# Altium integrated library DiPho_AFE.IntLib: 33 symbols
Pins are listed as number, name and electrical type; pins without a type are passive.

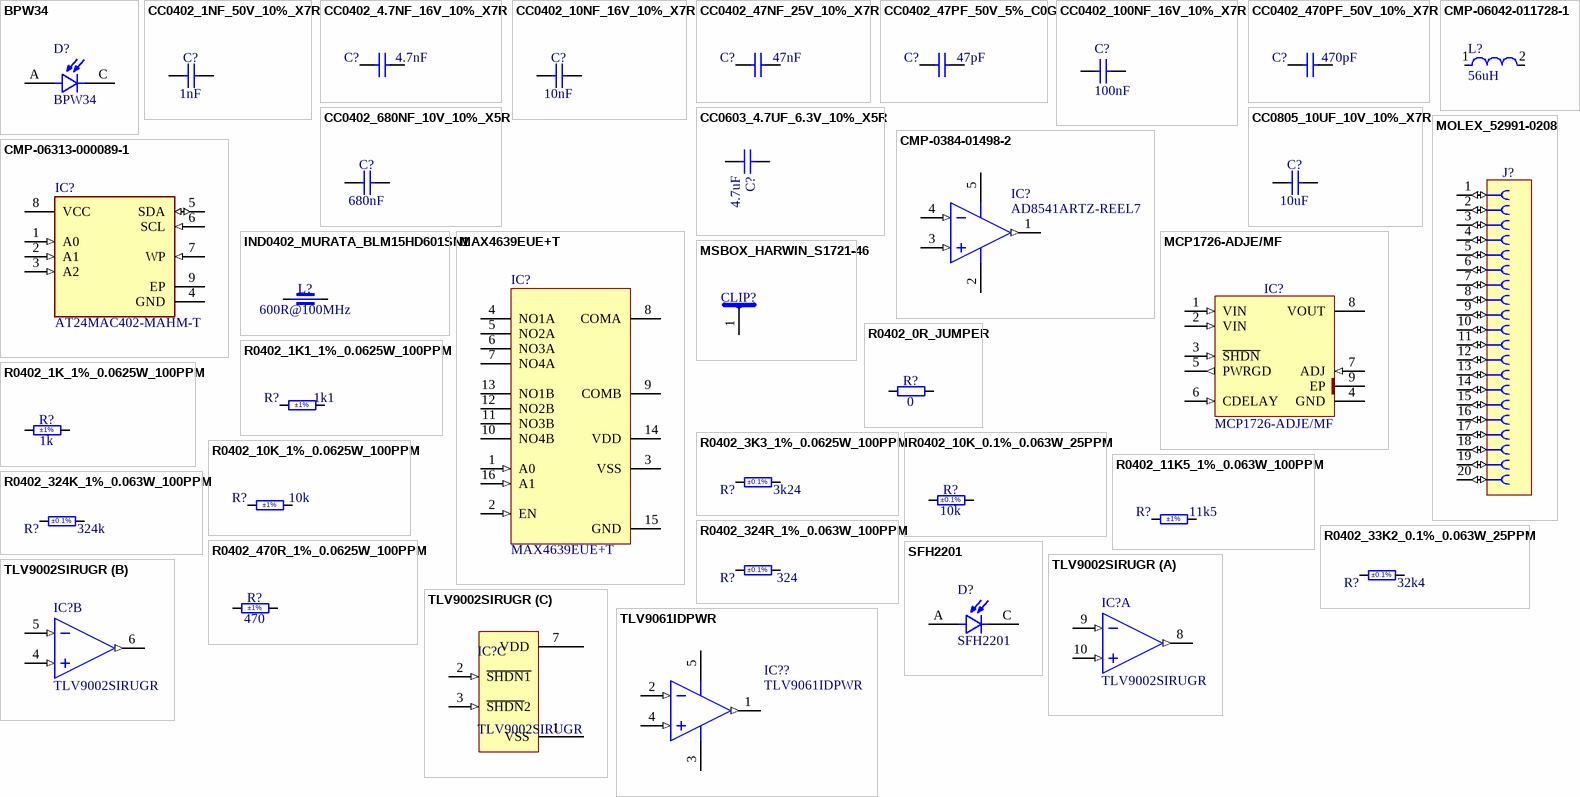
[diagram p0: symbols BPW34 to TLV9061IDPWR]

## BPW34
designator D?
VISHAY - BPW34 - Photodiode, 65 °, 2 nA, 900 nm, DIP-2; Wavelength: 900nm; Rise Time: 100ns; Dark Current: 2nA; Power Dissipation: 215mW; Reverse Breakdown Voltage: 60V; Viewing Angle: 130°; Diode Type: PIN; Lens Style: Clear; Supplier 1: Digi-Key; Manufacturer: Vishay; Manufacturer Part Number: BPW34; RoHS: Yes; Category: Photodiodes; Stock 1: 56; Pricing 1: 1=1,06000, 10=0,94400, 100=0,73630, 500=0,60822, 1000=0,48018, 2000=0,45300 (USD); Mount: Through Hole,PCB; Case/Package: DIP; Number of Pins: 2; Contact Plating: Tin; Min Operating Temperature: -40°C; Max Operating Temperature: 100°C; Fall Time: 100ns; Packaging: Bulk; Max Reverse Voltage (DC): 60V; Package Quantity: 3000; Max Power Dissipation: 215mW; Reverse Voltage (DC): 60V; Breakdown Voltage: 60V; Length: 4.5mm; Width: 4.3mm; Height: 2mm; Radiation Hardening: No; REACH SVHC: Unknown; Lead Free: Lead Free; ComponentLink1URL: https://datasheet.ciiva.com/1248/33605-1248690.pdf?src-supplier=Element14; ComponentLink1Description: https://datasheet.ciiva.com/1248/33605-1248690.pdf?src-supplier=Element14; ComponentLink2URL: https://datasheet.ciiva.com/1249/bpw34-1249073.pdf?src-supplier=Element14; ComponentLink2Description: https://datasheet.ciiva.com/1249/bpw34-1249073.pdf?src-supplier=Element14; ComponentLink3URL: https://datasheet.ciiva.com/25620/0900766b80de9fc5-25620357.pdf?src-supplier=RSComponents; ComponentLink3Description: https://datasheet.ciiva.com/25620/0900766b80de9fc5-25620357.pdf?src-supplier=RSComponents; ComponentLink4URL: https://datasheet.ciiva.com/4697/bpw34-79369-4697616.pdf?src-supplier=Mouser; ComponentLink4Description: https://datasheet.ciiva.com/4697/bpw34-79369-4697616.pdf?src-supplier=Mouser; ComponentLink5URL: https://datasheet.ciiva.com/1336/6514-1336219.pdf?src-supplier=Newark; ComponentLink5Description: https://datasheet.ciiva.com/1336/6514-1336219.pdf?src-supplier=Newark; ComponentLink6URL: https://datasheet.ciiva.com/4269/2bpw34-4269812.pdf?src-supplier=Arrow+Electronics; ComponentLink6Description: https://datasheet.ciiva.com/4269/2bpw34-4269812.pdf?src-supplier=Arrow+Electronics; ComponentLink7URL: https://datasheet.ciiva.com/15117/getdatasheetpartid-112064-15117125.pdf?src-supplier=Verical; ComponentLink7Description: https://datasheet.ciiva.com/15117/getdatasheetpartid-112064-15117125.pdf?src-supplier=Verical; ComponentLink8URL: https://datasheet.ciiva.com/1248/bpw34-1248686.pdf?src-supplier=Element14; ComponentLink8Description: https://datasheet.ciiva.com/1248/bpw34-1248686.pdf?src-supplier=Element14; ComponentLink9URL: https://datasheet.ciiva.com/1335/1809684-1335889.pdf?src-supplier=Newark; ComponentLink9Description: https://datasheet.ciiva.com/1335/1809684-1335889.pdf?src-supplier=Newark; ComponentLink10URL: https://datasheet.ciiva.com/2819/bpw34-2819744.pdf?src-supplier=Digi-Key; ComponentLink10Description: https://datasheet.ciiva.com/2819/bpw34-2819744.pdf?src-supplier=Digi-Key; ComponentLink11URL: https://datasheet.ciiva.com/8084/bpw34-8084840.pdf?src-supplier=Avnet; ComponentLink11Description: https://datasheet.ciiva.com/8084/bpw34-8084840.pdf?src-supplier=Avnet; Supplier Part Number 1: 751-1015-ND
footprint BPW34
pins: A, C

## CC0402_1NF_50V_10%_X7R
designator C?, comment 1nF
Non-polarised capacitor; Part Number: CC0402_1NF_50V_10%_X7R; Part Description: SMD Multilayer Chip Ceramic Capacitor; Manufacturer: GENERIC; Manufacturer1 Part Number: 223858715623; Voltage: 50V; TC: X7R; Tolerance: ±10%; Component Kind: Standard; Component Type: Standard; Footprint: CAPC1005X55N; Pin Count: 2; Value: 1nF; Status: Not Recommended; Manufacturer Part Number: CC0402_1NF_50V_10%_X7R; Case: 0402; Mounted: Yes; Socket: No; SMD: Yes; Sense: No; Manufacturer1 Example: PHYCOMP; Manufacturer1 ComponentHeight: 0.55mm; HelpURL: \\cern.ch\dfs\Applications\Altium\Datasheets\CC0402_X7R_PHYCOMP.pdf; Author: CERN DEM JLC; CreateDate: 03.12.2007; LatestRevisionDate: 03.12.2007
footprint CAPC1005X55N
pins: 1, 2

## CC0402_4.7NF_16V_10%_X7R
designator C?, comment 4.7nF
Non-polarised capacitor; Part Number: CC0402_4.7NF_16V_10%_X7R; Part Description: SMD Multilayer Chip Ceramic Capacitor; Manufacturer: GENERIC; Manufacturer1 Part Number: 223878715632; Voltage: 16V; TC: X7R; Tolerance: ±10%; Component Kind: Standard; Component Type: Standard; Footprint: CAPC1005X55N; Pin Count: 2; Value: 4.7nF; Status: Not Recommended; Manufacturer Part Number: CC0402_4.7NF_16V_10%_X7R; Case: 0402; Mounted: Yes; Socket: No; SMD: Yes; Sense: No; Manufacturer1 Example: PHYCOMP; Manufacturer1 ComponentHeight: 0.55mm; HelpURL: \\cern.ch\dfs\Applications\Altium\Datasheets\CC0402_X7R_PHYCOMP.pdf; Author: CERN DEM JLC; CreateDate: 03.12.2007; LatestRevisionDate: 03.12.2007
footprint CAPC1005X55N
pins: 1, 2

## CC0402_10NF_16V_10%_X7R
designator C?, comment 10nF
Non-polarised capacitor; Part Number: CC0402_10NF_16V_10%_X7R; Part Description: SMD Multilayer Chip Ceramic Capacitor; Manufacturer: GENERIC; Manufacturer1 Part Number: 223878715636; Voltage: 16V; TC: X7R; Tolerance: ±10%; Component Kind: Standard; Component Type: Standard; Footprint: CAPC1005X55N; Pin Count: 2; Value: 10nF; Status: Not Recommended; Manufacturer Part Number: CC0402_10NF_16V_10%_X7R; Case: 0402; Mounted: Yes; Socket: No; SMD: Yes; Sense: No; Manufacturer1 Example: PHYCOMP; Manufacturer1 ComponentHeight: 0.55mm; HelpURL: \\cern.ch\dfs\Applications\Altium\Datasheets\CC0402_X7R_PHYCOMP.pdf; Author: CERN DEM JLC; CreateDate: 03.12.2007; LatestRevisionDate: 03.12.2007
footprint CAPC1005X55N
pins: 1, 2

## CC0402_47NF_25V_10%_X7R
designator C?, comment 47nF
Non-polarised capacitor; Part Number: CC0402_47NF_25V_10%_X7R; Part Description: SMD Multilayer Chip Ceramic Capacitor; Manufacturer: GENERIC; Manufacturer1 Part Number: C1005X7R1E473K050; Voltage: 25V; TC: X7R; Tolerance: ±10%; Component Kind: Standard; Component Type: Standard; Footprint: CAPC1005X55N; Pin Count: 2; Value: 47nF; Status: Preferred; Manufacturer Part Number: CC0402_47NF_25V_10%_X7R; Case: 0402; Mounted: Yes; Socket: No; SMD: Yes; Sense: No; Manufacturer1 Example: TDK; Manufacturer1 ComponentHeight: 0.55mm; HelpURL: \\cern.ch\dfs\Applications\Altium\Datasheets\CC0402_X7R_TDK_C.pdf; Author: CERN DEM JLC; CreateDate: 25.10.2012; LatestRevisionDate: 25.10.2012
footprint CAPC1005X55N
pins: 1, 2

## CC0402_47PF_50V_5%_C0G
designator C?, comment 47pF
Non-polarised capacitor; Part Number: CC0402_47PF_50V_5%_C0G; Part Description: SMD Multilayer Chip Ceramic Capacitor; Manufacturer: GENERIC; Manufacturer1 Part Number: C0402C470J5GACTU; Voltage: 50V; TC: C0G/NP0; Tolerance: ±5%; Component Kind: Standard; Component Type: Standard; Footprint: CAPC1005X55N; Pin Count: 2; Value: 47pF; Status: Preferred; Manufacturer Part Number: CC0402_47PF_50V_5%_C0G; Case: 0402; Mounted: Yes; Socket: No; SMD: Yes; Sense: No; Manufacturer1 Example: KEMET; Manufacturer1 ComponentHeight: 0.55mm; HelpURL: \\cern.ch\dfs\Applications\Altium\Datasheets\CC0402_C0G_KEMET_(Commercial Grade).pdf; Author: CERN DEM JLC; CreateDate: 03.12.2007; LatestRevisionDate: 22.04.2015
footprint CAPC1005X55N
pins: 1, 2

## CC0402_100NF_16V_10%_X7R
designator C?, comment 100nF
Non-polarised capacitor; Manufacturer: GENERIC; Part Number: CC0402_100NF_16V_10%_X7R; Part Description: SMD Multilayer Chip Ceramic Capacitor; Manufacturer1 Part Number: GRM155R71C104KA88D; Tolerance: ±10%; Voltage: 16V; TC: X7R; Component Kind: Standard; Component Type: Standard; Footprint: CAPC1005X55N; Pin Count: 2; Value: 100nF; Status: Not Recommended; Manufacturer Part Number: CC0402_100NF_16V_10%_X7R; Case: 0402; Mounted: Yes; Socket: No; SMD: Yes; Sense: No; Manufacturer1 Example: MURATA; Manufacturer1 ComponentHeight: 0.55mm; HelpURL: \\cern.ch\dfs\Applications\Altium\Datasheets\CC0402_X7R_MURATA_GRM.pdf; Author: CERN DEM JLC; CreateDate: 05.12.2013; LatestRevisionDate: 03.12.2007
footprint CAPC1005X55N
pins: 1, 2

## CC0402_470PF_50V_10%_X7R
designator C?, comment 470pF
Non-polarised capacitor; Part Number: CC0402_470PF_50V_10%_X7R; Part Description: SMD Multilayer Chip Ceramic Capacitor; Manufacturer: GENERIC; Manufacturer1 Part Number: 223858715618; Voltage: 50V; TC: X7R; Tolerance: ±10%; Component Kind: Standard; Component Type: Standard; Footprint: CAPC1005X55N; Pin Count: 2; Value: 470pF; Status: Not Recommended; Manufacturer Part Number: CC0402_470PF_50V_10%_X7R; Case: 0402; Mounted: Yes; Socket: No; SMD: Yes; Sense: No; Manufacturer1 Example: PHYCOMP; Manufacturer1 ComponentHeight: 0.55mm; HelpURL: \\cern.ch\dfs\Applications\Altium\Datasheets\CC0402_NP0_PHYCOMP.pdf; Author: CERN DEM JLC; CreateDate: 03.12.2007; LatestRevisionDate: 03.12.2007
footprint CAPC1005X55N
pins: 1, 2

## CC0402_680NF_10V_10%_X5R
designator C?, comment 680nF
Non-polarised capacitor; Part Number: CC0402_680NF_10V_10%_X5R; Part Description: SMD Multilayer Chip Ceramic Capacitor; Manufacturer: GENERIC; Manufacturer1 Part Number: GRM155R61A684KE15; Voltage: 10V; TC: X5R; Tolerance: ±10%; Component Kind: Standard; Component Type: Standard; Footprint: CAPC1005X55N; Pin Count: 2; Value: 680nF; Status: None; Manufacturer Part Number: CC0402_680NF_10V_10%_X5R; Case: 0402; Mounted: Yes; Socket: No; SMD: Yes; Sense: No; Manufacturer1 Example: MURATA; Manufacturer1 ComponentHeight: 0.55mm; HelpURL: \\cern.ch\dfs\Applications\Altium\Datasheets\CC0402_X5R_MURATA_GRM.pdf; Author: CERN DEM BC; CreateDate: 19.04.2021; LatestRevisionDate: 19.04.2021
footprint CAPC1005X55N
pins: 1, 2

## CC0603_4.7UF_6.3V_10%_X5R
designator C?, comment 4.7uF
Non-polarised capacitor; Part Number: CC0603_4.7UF_6.3V_10%_X5R; Part Description: SMD Multilayer Chip Ceramic Capacitor; Manufacturer: GENERIC; Manufacturer1 Part Number: 225520613672; Voltage: 6.3V; TC: X5R; Tolerance: ±10%; Component Kind: Standard; Component Type: Standard; Footprint: CAPC1608X87N; Pin Count: 2; Value: 4.7uF; Status: Preferred; Manufacturer Part Number: CC0603_4.7UF_6.3V_10%_X5R; Case: 0603; Mounted: Yes; Socket: No; SMD: Yes; Sense: No; Manufacturer1 Example: PHYCOMP; Manufacturer1 ComponentHeight: 0.87mm; HelpURL: \\cern.ch\dfs\Applications\Altium\Datasheets\CC0805_X5R_PHYCOMP_HC.pdf; Author: CERN DEM JLC; CreateDate: 03.12.2007; LatestRevisionDate: 03.12.2007
footprint CAPC1608X87N
pins: 1, 2

## CC0805_10UF_10V_10%_X7R
designator C?, comment 10uF
Non-polarised capacitor; Part Number: CC0805_10UF_10V_10%_X7R; Part Description: SMD Multilayer Chip Ceramic Capacitor; Manufacturer: GENERIC; Manufacturer1 Part Number: GRM21BR71A106KE51L; Voltage: 10V; TC: X7R; Tolerance: ±10%; Component Kind: Standard; Component Type: Standard; Footprint: CAPC2012X135N; Pin Count: 2; Value: 10uF; Status: Preferred; Manufacturer Part Number: CC0805_10UF_10V_10%_X7R; Case: 0805; Mounted: Yes; Socket: No; SMD: Yes; Sense: No; Manufacturer1 Example: MURATA; Manufacturer1 ComponentHeight: 1.35mm; HelpURL: \\cern.ch\dfs\Applications\Altium\Datasheets\CC0805_X7R_MURATA.pdf; Author: CERN DEM JLC; CreateDate: 30.04.2012; LatestRevisionDate: 30.04.2012
footprint CAPC2012X135N
pins: 1, 2

## CMP-0384-01498-2
designator IC?, comment AD8541ARTZ-REEL7
Single Channel RRIO Operational Amplifier, 1 MHz BW, 920 mV/us SR, Industrial, 5-pin SOT23 (RJ-5), Reel; Manufacturer: Analog Devices; Generic Part Number: AD8541; Input Bias Current: 4pA; V Span Max: 5.5V; Amplifiers Per Package: 1; Small Signal Bandwidth: 1MHz; Input Offset Voltage: 1mV; Iq/Amp: 65uA; V Span Min: 2.7V; ComponentLink1URL: http://www.analog.com/en/index.html; ComponentLink2URL: http://www.analog.com/static/imported-files/data_sheets/AD8541_8542_8544.pdf; ComponentLink3Description: Package Specification; ComponentLink3URL: http://www.analog.com/static/imported-files/packages/PKG_PDF/SOT-23(RJ)/RJ_5.pdf; Slew Rate: 920mV/us; Mounting Technology: Surface Mount; ComponentLink4URL: http://www.analog.com/en/all-operational-amplifiers-op-amps/operational-amplifiers-op-amps/ad8541/products/product.html#product-recommendations; DatasheetVersion: Rev. G; ComponentLink1Description: Manufacturer URL; PackageVersion: 121608-A; ComponentLink2Description: Datasheet; RevisionNote: Reference Circuit URL fixed; PartNumber: AD8541ARTZ-REEL7; PackageDescription: 5-Pin Small Outline Transistor Package, Body 2.9 x 1.6 mm, Pitch 0.95 mm; ComponentLink4Description: Reference Circuit; PackageReference: RJ-5; Code_JEDEC: MO-178-AA; Manufacturer Part Number: AD8541ARTZ-REEL7
footprint ADI-RJ-5_N (SOT-23, 5-Leads, Body 2.9x1.6mm, Pitch 0.95mm, IPC Medium Density)
footprint ADI-RJ-5_L (SOT-23, 5-Leads, Body 2.9x1.6mm, Pitch 0.95mm, IPC High Density)
footprint ADI-RJ-5_M (SOT-23, 5-Leads, Body 2.9x1.6mm, Pitch 0.95mm, IPC Low Density)
pins: 1 OUT A (out), 2 -V (power), 3 +IN A (in), 4 -IN A (in), 5 +V (power)

## CMP-06042-011728-1
designator L?, comment 56uH
Wire Wound Ferrite Inductor for Power Lines 56μH ±20% 1.2Ω 500mA 1212; Manufacturer: Murata; Manufacturer Part Number: LQH3NPN560MMEL
footprint FP-LQH3NPH_ME-MFG
pins: 1, 2

## CMP-06313-000089-1
designator IC?, comment AT24MAC402-MAHM-T
IC EEPROM 2K I2C 1MHZ 8UDFN; Manufacturer: Microchip; Memory Size: 2Kb; Access Time: 550ns; Memory Type: Non-Volatile; Max Operating Temperature: 85°C; Frequency: 1MHz; Min Operating Temperature: -40°C; Packaging: Cut Tape; RoHS Compliant: Yes; Mount: Surface Mount; Manufacturer Part Number: AT24MAC402-MAHM-T
footprint FP-C04-21355-Q4B-IPC_B
footprint FP-C04-21355-Q4B-MFG
footprint FP-C04-21355-Q4B-IPC_C
footprint FP-C04-21355-Q4B-IPC_A
pins: 1 A0 (in), 2 A1 (in), 3 A2 (in), 4 GND (power), 5 SDA (io), 6 SCL (in), 7 WP (in), 8 VCC (power), 9 EP (power)

## IND0402_MURATA_BLM15HD601SN1
designator L?, comment 600R@100MHz
Part Number: IND0402_MURATA_BLM15HD601SN1; Part Description: SMD EMIFIL Suppression Chip Ferrite Bead; Manufacturer: MURATA; Manufacturer Part Number: BLM15HD601SN1D; Power: 300mA; Resistance: 0.85R; Tolerance: ±25%; Component Kind: Standard; Component Type: Standard; Footprint: INDC1005X55N; Pin Count: 2; Value: 600R@100MHz; Status: None; Case: 0402; Mounted: Yes; Socket: No; SMD: Yes; Sense: No; ComponentHeight: 0.55mm; HelpURL: \\cern.ch\dfs\Applications\Altium\Datasheets\IND0402_MURATA_BLM15H.pdf; Author: CERN DEM JLC; CreateDate: 28.02.2012; LatestRevisionDate: 25.10.2018
footprint INDC1005X55N
pins: 1, 2
1 alternate drawing of the same symbol

## MAX4639EUE+T
designator IC?
MAX4639 Series SP4T 2.5V 3.5 Ohm Surface Mount Analog Switch - TSSOP-16; Manufacturer: Maxim; Min Supply Voltage: 1.8V; Max Supply Voltage: 5.5V; Min Dual Supply Voltage: 900mV; Max Dual Supply Voltage: 2.75V; Propagation Delay: 18ns; Bandwidth: 85MHz; Max Power Dissipation: 457mW; On-State Resistance: 3.5R; Turn-On Delay Time: 20ns; Turn-Off Delay Time: 9ns; Number of Channels: 2; Operating Supply Current: 1uA; Operating Supply Voltage: 5V; Logic Function: Multiplexer; Supply Type: Single,Dual; Supplier 1: Newark; Manufacturer Part Number: MAX4639EUE+T; RoHS: Yes; Category: Interface ICs; Stock 1: 5520; Pricing 1: 1=6,47000, 10=5,85000, 25=5,58000, 50=5,22000, 100=4,85000, 250=4,63000, 500=4,22000, 1000=4,08000 (USD); Mount: Surface Mount; Case/Package: TSSOP; Number of Pins: 16; Min Operating Temperature: -40°C; Max Operating Temperature: 85°C; Packaging: Tape and Reel; Package Quantity: 2500; Number of Switches: 2; Series: -; Radiation Hardening: No; RoHS Compliant: Yes; ComponentLink1URL: https://datasheet.ciiva.com/12185/max4638-max4639-64806-12185552.pdf?src-supplier=Mouser; ComponentLink1Description: https://datasheet.ciiva.com/12185/max4638-max4639-64806-12185552.pdf?src-supplier=Mouser; ComponentLink2URL: https://datasheet.ciiva.com/2979/max4638-max4639-2979809.pdf?src-supplier=Avnet; ComponentLink2Description: https://datasheet.ciiva.com/2979/max4638-max4639-2979809.pdf?src-supplier=Avnet; ComponentLink3URL: https://datasheet.ciiva.com/1685/max4638-max4639-1685689.pdf?src-supplier=Digi-Key; ComponentLink3Description: https://datasheet.ciiva.com/1685/max4638-max4639-1685689.pdf?src-supplier=Digi-Key; Supplier Part Number 1: 69AH0947
footprint TSOP65P640X110-16L (TSOP, 16-Leads, Body 5,00x4,40mm, Pitch 0,65mm, IPC High Density)
pins: 1 A0 (in), 2 EN (in), 3 VSS (power), 4 NO1A, 5 NO2A, 6 NO3A, 7 NO4A, 8 COMA, 9 COMB, 10 NO4B, 11 NO3B, 12 NO2B, 13 NO1B, 14 VDD (power), 15 GND (power), 16 A1 (in)

## MCP1726-ADJE/MF
designator IC?
1A, 0.8V to 5.0V Adjustable , Low Quiescent Current LDO Regulator; Manufacturer: MICROCHIP TECHNOLOGY; PressFit: No; Bonding: No; Part Number: MCP1726-ADJE/MF; Component Kind: Standard; Component Type: Standard; Device: MCP1726-ADJE/MF; Footprint: SON65P300X300X100-9N-R160X240; PackageDescription: SON, 0.65mm pitch, 8 pin, 3mm X 3mm X 1.00mm H body (w/thermal tab 1.60 X 2.4mm),  IPC Medium Density; Part Description: 1A, 0.8V to 5.0V Adjustable, Low Quiescent Current LDO Regulator; Manufacturer Part Number: MCP1726-ADJE/MF; Pin Count: 8; Case: SON8; Mounted: Yes; Socket: No; SMD: Yes; Sense: No; ComponentHeight: 1mm; HelpURL: \\cern.ch\dfs\Applications\Altium\Datasheets\MCP1726-ADJE-MF.pdf; Author: CERN DEM JLC; CreateDate: 07.02.2012; LatestRevisionDate: 07.02.2012
footprint SON65P300X300X100-9N-R160X240
pins: 1 VIN (in), 2 VIN (in), 3 ~{SHDN} (in), 4 GND (power), 5 PWRGD (out), 6 CDELAY (in), 7 ADJ (in), 8 VOUT (power), 9 EP (power)

## MOLEX_52991-0208
designator J?, comment SlimStack™  (value not drawn)
Connector 20 Female; Part Number: MOLEX_52991-0208; Part Description: 0.50mm Pitch SlimStack™ Dual Row 20 Circuits Surface Mount Vertical Receptacle (3.00 and 4.00mm Stacking Heights); Manufacturer: MOLEX; Manufacturer Part Number: 52991-0208; PressFit: No; Component Kind: Standard; Component Type: Standard; Footprint: MOLEX_52991-0208; Pin Count: 20; Family: SlimStack™; Mounted: Yes; Socket: No; SMD: Yes; Sense: No; Status: None; ComponentHeight: 2.27mm; HelpURL: \\cern.ch\dfs\Applications\Altium\Datasheets\MOLEX_52991-0208.pdf; Author: CERN DEM BC; CreateDate: 09.12.2019; LatestRevisionDate: 09.12.2019
footprint MOLEX_52991-0208
pins: 1 (io), 2 (io), 3 (io), 4 (io), 5 (io), 6 (io), 7 (io), 8 (io), 9 (io), 10 (io), 11 (io), 12 (io), 13 (io), 14 (io), 15 (io), 16 (io), 17 (io), 18 (io), 19 (io), 20 (io)
1 alternate drawing of the same symbol

## MSBOX_HARWIN_S1721-46
designator CLIP?, comment Clip 1 Pin  (value not drawn)
Surface Mount Clip for PCB Screening Covers; Part Number: MSBOX_HARWIN_S1721-46; Part Description: RFI Shield Clip, Mini Size (5.08mm Long, 2.23mm High), For 0.13-0.23mm Shield Thickness.; Manufacturer: HARWIN; Manufacturer Part Number: S1721-46; PressFit: No; Component Kind: Standard; Component Type: Standard; Footprint: MSBOX_HARWIN_S1721-46; Pin Count: 1; PackageDescription: RFI Shield Clip, Mini Size (5.08mm Long, 2.23mm High), For 0.13-0.23mm Shield Thickness.; Mounted: Yes; Socket: No; SMD: Yes; Sense: No; Status: None; ComponentHeight: 2.23mm; HelpURL: \\cern.ch\dfs\Applications\Altium\Datasheets\HARWIN_S1721-46.pdf; Author: CERN DEM MR; CreateDate: 10.02.2016; LatestRevisionDate: 10.02.2016
footprint MSBOX_HARWIN_S1721-46
pins: 1

## R0402_0R_JUMPER
designator R?, comment 0
Resistor; Part Number: R0402_0R_JUMPER; Part Description: 1A (0.05R Max DC Resistance) Zero Ohm Jumper; Manufacturer: GENERIC; Manufacturer1 Part Number: 232270591001L; PressFit: No; Component Kind: Standard; Component Type: Standard; Footprint: RESC1005X40N; Pin Count: 2; Value: 0; Status: Not Recommended; Manufacturer Part Number: R0402_0R_JUMPER; Case: 0402; Mounted: Yes; Sense: No; Socket: No; SMD: Yes; Manufacturer1 Example: YAGEO PHYCOMP; Manufacturer1 ComponentHeight: 0.4mm; HelpURL: \\cern.ch\dfs\Applications\Altium\Datasheets\R0402_Phycomp_RC0402.pdf; Author: CERN DEM JLC; CreateDate: 03.12.2007; LatestRevisionDate: 17.10.2012
footprint RESC1005X40N
pins: 1, 2

## R0402_1K1_1%_0.0625W_100PPM
designator R?, comment 1k1  Tolerance: ±1%
Resistor - 1%; Part Number: R0402_1K1_1%_0.0625W_100PPM; Part Description: General Purpose Thick Film Chip Resistor; Manufacturer: GENERIC; Manufacturer1 Part Number: 232270671102L; Power: 0.0625W; TC: ±100ppm/°C; PressFit: No; Component Kind: Standard; Component Type: Standard; Footprint: RESC1005X40N; Pin Count: 2; Value: 1k1; Status: Not Recommended; Manufacturer Part Number: R0402_1K1_1%_0.0625W_100PPM; Case: 0402; Mounted: Yes; Sense: No; Socket: No; SMD: Yes; Manufacturer1 Example: YAGEO PHYCOMP; Manufacturer1 ComponentHeight: 0.4mm; HelpURL: \\cern.ch\dfs\Applications\Altium\Datasheets\R0402_Phycomp_RC0402.pdf; Author: CERN DEM JLC; CreateDate: 03.12.2007; LatestRevisionDate: 17.10.2012
footprint RESC1005X40N
pins: 1, 2

## R0402_1K_1%_0.0625W_100PPM
designator R?, comment 1k  Tolerance: ±1%
Resistor - 1%; Part Number: R0402_1K_1%_0.0625W_100PPM; Part Description: General Purpose Thick Film Chip Resistor; Manufacturer: GENERIC; Manufacturer1 Part Number: 232270671002L; Power: 0.0625W; TC: ±100ppm/°C; PressFit: No; Component Kind: Standard; Component Type: Standard; Footprint: RESC1005X40N; Pin Count: 2; Value: 1k; Status: Not Recommended; Manufacturer Part Number: R0402_1K_1%_0.0625W_100PPM; Case: 0402; Mounted: Yes; Sense: No; Socket: No; SMD: Yes; Manufacturer1 Example: YAGEO PHYCOMP; Manufacturer1 ComponentHeight: 0.4mm; HelpURL: \\cern.ch\dfs\Applications\Altium\Datasheets\R0402_Phycomp_RC0402.pdf; Author: CERN DEM JLC; CreateDate: 03.12.2007; LatestRevisionDate: 17.10.2012
footprint RESC1005X40N
pins: 1, 2

## R0402_3K3_1%_0.0625W_100PPM
designator R?, comment 3k24  Tolerance: ±0.1%
Resistor - 0.1%; Part Number: R0402_3K24_0.1%_0.0625W_100PPM; Part Description: General Purpose Thick Film Chip Resistor; Manufacturer: GENERIC; Power: 0.0625W; TC: ±100ppm/°C; PressFit: No; Component Kind: Standard; Component Type: Standard; Footprint: RESC1005X40N; Pin Count: 2; Value: 3k24; Manufacturer Part Number: R0402_3K24_0.1%_0.0625W_100PPM; Case: 0402; Mounted: Yes; Sense: No; Socket: No; SMD: Yes; Manufacturer1 ComponentHeight: 0.4mm; HelpURL: \\cern.ch\dfs\Applications\Altium\Datasheets\R0402_Phycomp_RC0402.pdf; Author: CERN DEM JLC; CreateDate: 03.12.2007; LatestRevisionDate: 17.10.2012
footprint RESC1005X40N
pins: 1, 2

## R0402_10K_0.1%_0.063W_25PPM
designator R?, comment 10k  Tolerance: ±0.1%
Resistor - 0.1%; Part Number: R0402_10K_0.1%_0.063W_25PPM; Part Description: Thin Film Precision Resistor; Manufacturer: GENERIC; Manufacturer1 Part Number: CPF0402B10KE1; Power: 0.063W; TC: ±25ppm/°C; PressFit: No; Component Kind: Standard; Component Type: Standard; Footprint: RESC1005X35N; Pin Count: 2; Value: 10k; Status: Not Recommended; Manufacturer Part Number: R0402_10K_0.1%_0.063W_25PPM; Case: 0402; Mounted: Yes; Sense: No; Socket: No; SMD: Yes; Manufacturer1 Example: TE CONNECTIVITY; Manufacturer1 ComponentHeight: 0.35mm; HelpURL: \\cern.ch\dfs\Applications\Altium\Datasheets\R0402_TYCO_CPF.pdf; Author: CERN DEM JMW; CreateDate: 22.09.2015; LatestRevisionDate: 22.09.2015
footprint RESC1005X35N
pins: 1, 2

## R0402_10K_1%_0.0625W_100PPM
designator R?, comment 10k  Tolerance: ±1%
Resistor - 1%; Part Number: R0402_10K_1%_0.0625W_100PPM; Part Description: General Purpose Thick Film Chip Resistor; Manufacturer: GENERIC; Manufacturer1 Part Number: 232270671003L; Power: 0.0625W; TC: ±100ppm/°C; PressFit: No; Component Kind: Standard; Component Type: Standard; Footprint: RESC1005X40N; Pin Count: 2; Value: 10k; Status: Not Recommended; Manufacturer Part Number: R0402_10K_1%_0.0625W_100PPM; Case: 0402; Mounted: Yes; Sense: No; Socket: No; SMD: Yes; Manufacturer1 Example: YAGEO PHYCOMP; Manufacturer1 ComponentHeight: 0.4mm; HelpURL: \\cern.ch\dfs\Applications\Altium\Datasheets\R0402_Phycomp_RC0402.pdf; Author: CERN DEM JLC; CreateDate: 03.12.2007; LatestRevisionDate: 17.10.2012
footprint RESC1005X40N
pins: 1, 2

## R0402_11K5_1%_0.063W_100PPM
designator R?, comment 11k5  Tolerance: ±1%
Resistor - 1%; Part Number: R0402_11K5_1%_0.063W_100PPM; Part Description: Standard Thick Film Chip Resistor; Manufacturer: GENERIC; Manufacturer1 Part Number: CRCW040211K5FK; Power: 0.063W; TC: ±100ppm/°C; PressFit: No; Component Kind: Standard; Component Type: Standard; Footprint: RESC1005X40N; Pin Count: 2; Value: 11k5; Status: None; Manufacturer Part Number: R0402_11K5_1%_0.063W_100PPM; Case: 0402; Mounted: Yes; Sense: No; Socket: No; SMD: Yes; Manufacturer1 Example: VISHAY; Manufacturer1 ComponentHeight: 0.4mm; HelpURL: \\cern.ch\dfs\Applications\Altium\Datasheets\R0402_VISHAY_CRCW e3.pdf; Author: CERN DEM BC; CreateDate: 02.06.2020; LatestRevisionDate: 02.06.2020
footprint RESC1005X40N
pins: 1, 2

## R0402_33K2_0.1%_0.063W_25PPM
designator R?, comment 32k4  Tolerance: ±0.1%
Resistor - 0.1%; Part Number: R0402_32K4_0.1%_0.063W_25PPM; Part Description: Thin Film Precision Resistor; Manufacturer: GENERIC; Power: 0.063W; TC: ±25ppm/°C; PressFit: No; Voltage: 50V; Component Kind: Standard; Component Type: Standard; Footprint: RESC1005X40N; Pin Count: 2; Value: 32k4; Manufacturer Part Number: R0402_32K4_0.1%_0.063W_25PPM; Case: 0402; Mounted: Yes; Sense: No; Socket: No; SMD: Yes; Manufacturer1 ComponentHeight: 0.4mm; HelpURL: \\cern.ch\dfs\Applications\Altium\Datasheets\R0402_PANASONIC_ERA.pdf; Author: CERN DEM BC; CreateDate: 09.07.2020; LatestRevisionDate: 09.07.2020
footprint RESC1005X40N
pins: 1, 2

## R0402_324K_1%_0.063W_100PPM
designator R?, comment 324k  Tolerance: ±0.1%
Resistor - 0.1%; Part Number: R0402_324K_0.1%_0.063W_100PPM; Part Description: General Purpose Thick Film Chip Resistor; Manufacturer: GENERIC; Power: 0.063W; TC: ±100ppm/°C; PressFit: No; Component Kind: Standard; Component Type: Standard; Footprint: RESC1005X40N; Pin Count: 2; Value: 324k; Status: None; Manufacturer Part Number: R0402_324K_0.1%_0.063W_100PPM; Case: 0402; Mounted: Yes; Sense: No; Socket: No; SMD: Yes; Manufacturer1 ComponentHeight: 0.4mm; HelpURL: \\cern.ch\dfs\Applications\Altium\Datasheets\R0402_VISHAY_CRCW e3.pdf; Author: CERN DEM BC; CreateDate: 24.01.2020; LatestRevisionDate: 24.01.2020
footprint RESC1005X40N
pins: 1, 2

## R0402_324R_1%_0.063W_100PPM
designator R?, comment 324  Tolerance: ±0.1%
Resistor - 0.1%; Part Number: R0402_324R_0.1%_0.063W_100PPM; Part Description: General Purpose Thick Film Chip Resistor; Manufacturer: GENERIC; Power: 0.063W; TC: ±100ppm/°C; PressFit: No; Component Kind: Standard; Component Type: Standard; Footprint: RESC1005X40N; Pin Count: 2; Value: 324; Status: None; Manufacturer Part Number: R0402_324R_0.1%_0.063W_100PPM; Case: 0402; Mounted: Yes; Sense: No; Socket: No; SMD: Yes; Manufacturer1 ComponentHeight: 0.4mm; HelpURL: \\cern.ch\dfs\Applications\Altium\Datasheets\R0402_VISHAY_CRCW e3.pdf; Author: CERN DEM BC; CreateDate: 10.01.2020; LatestRevisionDate: 10.01.2020
footprint RESC1005X40N
pins: 1, 2

## R0402_470R_1%_0.0625W_100PPM
designator R?, comment 470  Tolerance: ±1%
Resistor - 1%; Part Number: R0402_470R_1%_0.0625W_100PPM; Part Description: General Purpose Thick Film Chip Resistor; Manufacturer: GENERIC; Manufacturer1 Part Number: 232270674701L; Power: 0.0625W; TC: ±100ppm/°C; PressFit: No; Component Kind: Standard; Component Type: Standard; Footprint: RESC1005X40N; Pin Count: 2; Value: 470; Status: Not Recommended; Manufacturer Part Number: R0402_470R_1%_0.0625W_100PPM; Case: 0402; Mounted: Yes; Sense: No; Socket: No; SMD: Yes; Manufacturer1 Example: YAGEO PHYCOMP; Manufacturer1 ComponentHeight: 0.4mm; HelpURL: \\cern.ch\dfs\Applications\Altium\Datasheets\R0402_Phycomp_RC0402.pdf; Author: CERN DEM JLC; CreateDate: 03.12.2007; LatestRevisionDate: 17.10.2012
footprint RESC1005X40N
pins: 1, 2

## SFH2201
designator D?
footprint SFH_2201
pins: A, C

## TLV9002SIRUGR
designator IC?
Rail-to-Rail Input/Output Operational Amplifier Dual 1.8V to 5.5V 10-Pin X2QFN T/R; Manufacturer: Texas Instruments; Supplier 1: Digi-Key; Manufacturer Part Number: TLV9002SIRUGR; RoHS: Yes; Category: Amplifiers - Op Amps, Buffer, Instrumentation; Stock 1: 2771; Pricing 1: 1=0,89000, 10=0,78400, 25=0,73600, 100=0,60070, 250=0,55800, 500=0,47488, 1000=0,37990 (USD); Supplier Part Number 1: 296-TLV9002SIRUGRCT-ND
footprint QFN50P150X200X40-10N (QFN, 10-Leads, Body 1,50x2,00mm, Pitch 0,50mm, IPC Medium Density)
part A pins: 8 OUT (out), 9 IN- (in), 10 IN+ (in)
part B pins: 4 IN+ (in), 5 IN- (in), 6 OUT (out)
part C pins: 1 VSS, 2 ~{SHDN1} (in), 3 ~{SHDN}2 (in), 7 VDD

## TLV9061IDPWR
designator IC??
Industry's smallest 10MHz, RRIO, 1.8V-5.5V operational amplifier 5-X2SON -40 to 125; Manufacturer: Texas Instruments; Number of Channels: 1; Slew Rate: 6.5V/µs; Input Bias Current: 0.5pA; Input Offset Voltage (Vos): 300uV; Operating Supply Current: 538uA; Output Current per Channel: 50mA; Supplier 1: Arrow Electronics; Manufacturer Part Number: TLV9061IDPWR; RoHS: Yes; Category: Amplifiers - Op Amps, Buffer, Instrumentation; Stock 1: 6000; Pricing 1: 1=0,36580 (USD); Mount: Surface Mount; Min Operating Temperature: -40°C; Max Operating Temperature: 125°C; Packaging: Cut Tape; Number of Circuits: 1; Gain Bandwidth Product: 10MHz; RoHS Compliant: Yes; ComponentLink1URL: http://www.ti.com/lit/ds/symlink/tlv9061.pdf?src-supplier=Farnell; ComponentLink1Description: http://www.ti.com/lit/ds/symlink/tlv9061.pdf?src-supplier=Farnell; ComponentLink2URL: http://www.ti.com/lit/ds/symlink/tlv9061.pdf?src-supplier=Digi-Key; ComponentLink2Description: http://www.ti.com/lit/ds/symlink/tlv9061.pdf?src-supplier=Digi-Key; Supplier Part Number 1: TLV9061IDPWR
footprint SON127P80X40-5N (SON, 0-Leads, Body 0,80x0,80mm, Pitch 1,27mm, IPC Medium Density)
pins: 1 OUT (out), 2 IN- (in), 3 V- (power), 4 IN+ (in), 5 V+ (power)